# Altium footprint library PCB - RESISTOR - SHUNT - R5930.PCBLIB: 1 footprints
Each footprint in its own frame and in the unit in brackets; x right, y up, seen from the top. Pads: shape width x height; smd on the part's side, far side on the other; paste and mask are expansions set on the pad; w line width, h text height; cw(c..) or ccw(c..) is an arc to the next point about the centre after c.
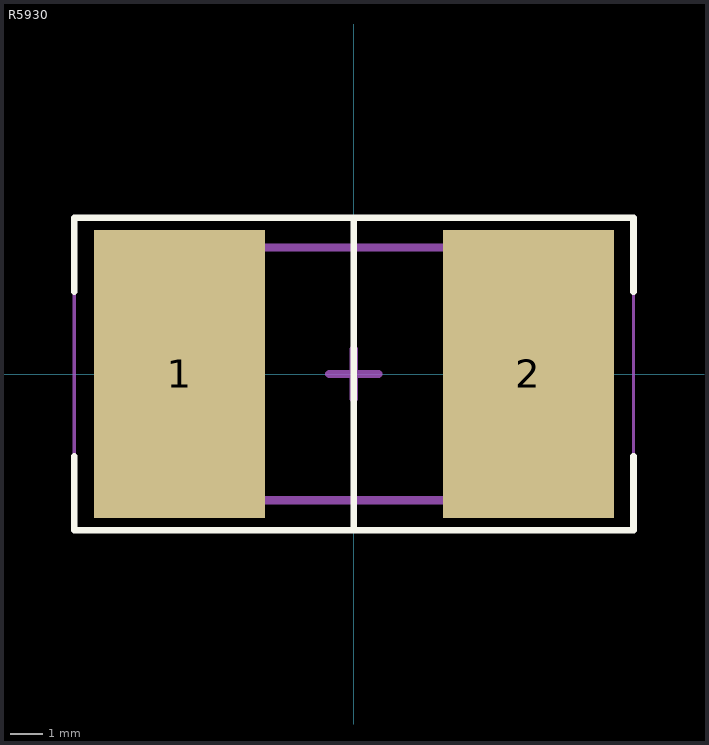
[diagram p0: the footprint, top view; thin cyan lines are the x and y axes]

## R5930 [mm] "Chip Shunt Resistor, 2mOhm, 7W, +-1%"
height 0.7
pads (2):
  rect 5.2x8.75 smd: 1(-5.297,0.003) 2(5.303,0.003)
Top Overlay:
  lines w0.2: -8.497,-2.497 -8.497,-4.747 8.503,-4.747 8.503,-2.497 ; -8.497,2.5 -8.497,4.75 ; -8.497,4.753 8.503,4.753 ; 0,-4.744 0,0 0,4.75 ; 8.503,2.5 8.503,4.75
Top Assembly:
  lines w0.254: -7.05,-3.84 -7.05,3.85 7.04,3.85 7.06,3.83 7.06,-3.84 -7.05,-3.84
Top Courtyard:
  lines w0.1: -8.5,-4.75 8.5,-4.75 8.5,4.75 -8.5,4.75 -8.5,-4.75
Top Designator:
  text ".Designator" at -4.87,5.203 h1
Top Component Center:
  lines w0.254: -0.75,0 0,0 ; 0,-0.75 0,0 ; 0,0.75 0,0 ; 0.75,0 0,0
3D body "Shunt_HYRF5930R002FT.step": height 1, standoff 0, extent -7.025,-3.84 7.056,3.841